# EAGLE library part 691311700008 (library Eagle_WR-TBL Pluggable Connector (rev21a))
WR-TBL Serie 3117 - 5.00 mm Open Vertical PCB Header KIND PROPERTIES Pitch 5 mm MATERIAL PROPERTIES Insulator Material PBT Insulator Flammability Rating UL94 V-0 Contact Material Brass Contact Plating Tin GENERAL INFORMATION Operating Temperature -40 up to +105 °C Compliance RoHS ELECTRICAL PROPERTIES IR cULus 20 A IR VDE 20 A Working Voltage [cULus] 300 V (AC) Working Voltage [VDE] 300 V (AC) Withstanding Voltage [cULus] 1600 V (AC) Withstanding Voltage [VDE] 2500 V (AC) Contact Resistance [cULus] 20 mΩ Contact Resistance [VDE] 20 mΩ CERTIFICATION cULus Approval E315414 VDE Approval 40023195 <https://www.we-online.com/catalog/media/o60781v209%20Family_TBL_3_81_3103_HORIZONTAL_PCB_HEADER_W_FLANGES_6913103400XX.jpg> Details see: https://www.we-online.com/catalog/media/o33259v209%20Family_WR-TBL_69131170000x.jpg Updated by Ella Wu 2019-12-24 2019(C) Wurth Elektronik
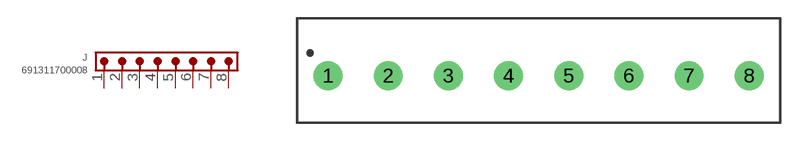
[diagram p174: symbol with the pads of 691311700008; footprint 691311700008]

Designator prefix J

## 691311700008 (DATASHEET-URL: https://www.we-online.com/catalog/datasheet/691311700008.pdf; IR-UL: 20A; IR-VDE: 20A; MOUNT: THT; PART-NUMBER: 691311700008; PINS: 8; PITCH: 5mm; TYPE: Vertical; VALUE: 691311700008; WORKING-VOLTAGE-UL: 300V (AC); WORKING-VOLTAGE-VDE: 300V (AC))  [691311700008]
1  1  pas
2  2  pas
3  3  pas
4  4  pas
5  5  pas
6  6  pas
7  7  pas
8  8  pas

## Footprint 691311700008 (pad centres in mm)
WR-TBL Serie 3117 - 5.00 mm Open Vertical PCB Header Max Height = 12mm , Pitch 5mm , 8pins
drill 1.6: 1 -17.5,0; 2 -12.5,0; 3 -7.5,0; 4 -2.5,0; 5 2.5,0; 6 7.5,0; 7 12.5,0; 8 17.5,0